# Altium footprint library Components - 02.12.24 - 02.57.PcbLib: 1 footprints
Each footprint in its own frame and in the unit in brackets; x right, y up, seen from the top. Pads: shape width x height; smd on the part's side, far side on the other; paste and mask are expansions set on the pad; w line width, h text height; cw(c..) or ccw(c..) is an arc to the next point about the centre after c.
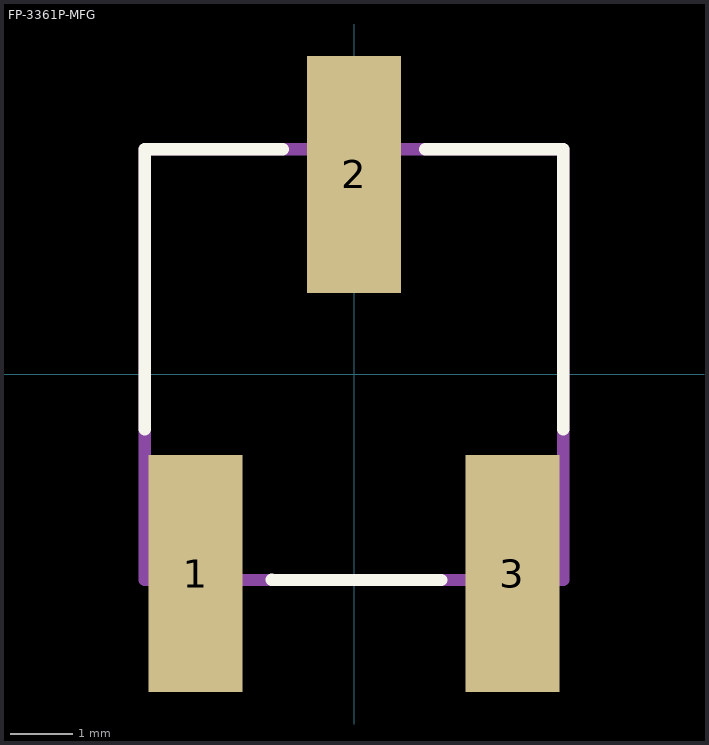
[diagram p0: the footprint, top view; thin cyan lines are the x and y axes]

## FP-3361P-MFG [mm]
pads (3):
  rect 1.5x3.8 smd paste+0: 1(-2.54,-3.2) 2(0,3.2) 3(2.54,-3.2)
Top Overlay:
  lines w0.2: -3.353,-0.889 -3.353,3.6 -1.143,3.6 ; -1.316,-3.295 1.397,-3.302 ; 1.143,3.6 3.353,3.6 3.353,-0.889
Mechanical 29:
  lines w0.2: -3.353,-3.302 3.353,-3.302 3.353,3.6 -3.353,3.6 -3.353,-3.302
  text ".Designator" at 0,0 h1
3D body "Res_Bourns_3361P-1-502GLF_eec.STEP": height 5.84, standoff -0.02, extent -3.353,-4.229 3.353,4.305